# Altium footprint library Switch.PcbLib: 29 footprints (part 1 of 2)
Each footprint in its own frame and in the unit in brackets; x right, y up, seen from the top. Pads: shape width x height; smd on the part's side, far side on the other; paste and mask are expansions set on the pad; w line width, h text height; cw(c..) or ccw(c..) is an arc to the next point about the centre after c.
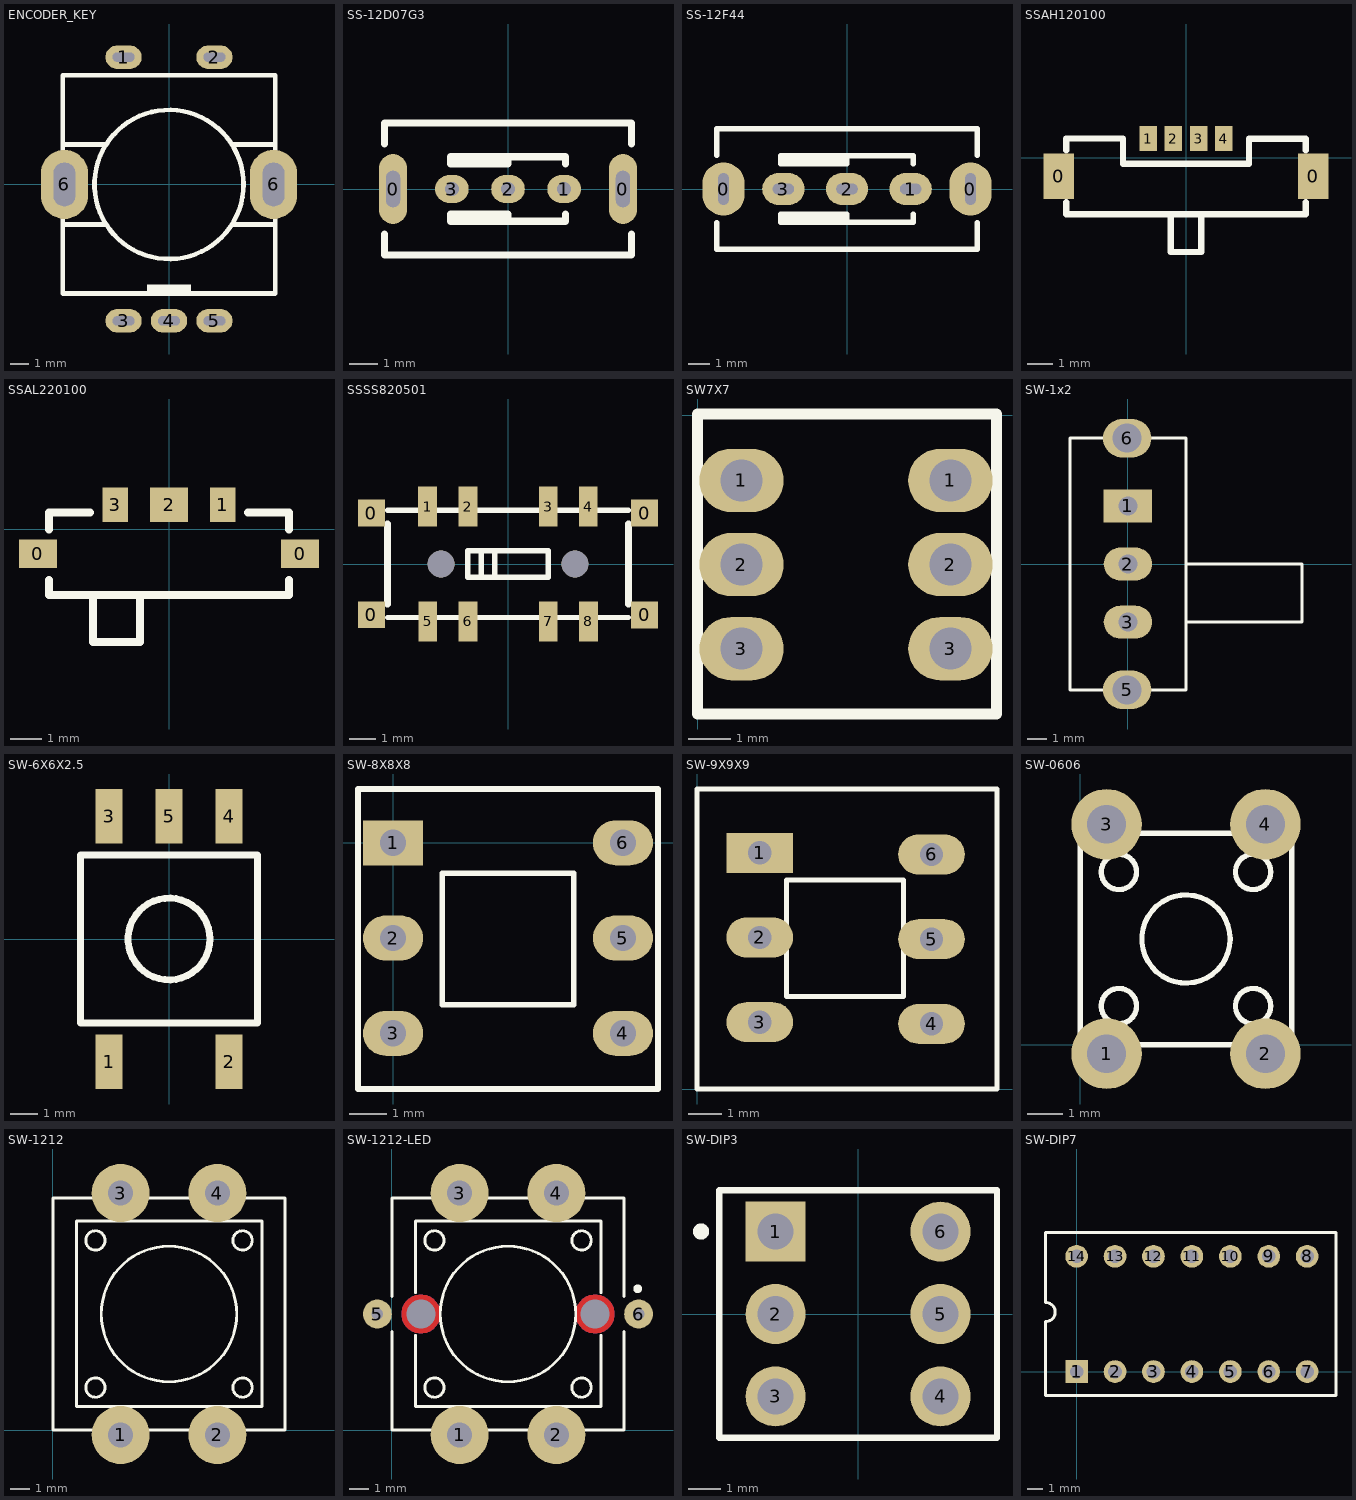
[diagram p0: the footprints below, top view; thin cyan lines are the x and y axes]

## ENCODER_KEY [mm]
pads (7):
  oval 2x1.3 hole 0.5 slot 1.2 at 0 deg: 1(-2.5,7) 2(2.5,7) 3(-2.5,-7.5) 4(0,-7.5) 5(2.5,-7.5)
  oval 2.6x3.8 hole 1.2 slot 2.4 at 90 deg: 6(-5.75,0) 6(5.75,0)
Top Overlay:
  circle w0.254: c0,0 r4.1
  rectangle: -1.2,-6 1.2,-5.5
  lines w0.254: -5.85,-2.2 -3.45,-2.2 ; -5.85,2.2 -3.45,2.2 ; 3.45,-2.2 5.85,-2.2 ; 3.45,2.2 5.85,2.2 ; -5.85,-6 5.85,-6 5.85,6 -5.85,6 -5.85,-6

## SS-12D07G3 [mm]
height 7.7
pads (5):
  oval 1x2.5 hole 0.5 slot 1.3 at 90 deg: 0(-4.1,0) 0(4.1,0)
  oval 1.2x1 hole 0.5: 1(2,0) 2(0,0) 3(-2,0)
Top Overlay:
  lines w0.254: -4.4,-1.6 -4.4,-2.35 4.4,-2.35 4.4,-1.6 ; -4.4,1.6 -4.4,2.35 4.4,2.35 4.4,1.6 ; 0,-1.15 0,-0.9 -2.05,-0.9 -2.05,-1.15 2.05,-1.15 2.05,-0.9 ; 0,1.15 0,0.9 -2.05,0.9 -2.05,1.15 2.05,1.15 2.05,0.9

## SS-12F44 [mm]
height 12
pads (5):
  oval 2x2.5 hole 0.5 slot 1.5 at 90 deg: 0(-5.825,0) 0(5.825,0)
  oval 2x1.5 hole 0.5 slot 1 at 0 deg: 1(3,0) 2(0,0) 3(-3,0)
Top Overlay:
  rectangle: -3.12,1.2 0,1.575
  rectangle: -3.12,-1.575 0,-1.2
  lines w0.254: -6.15,-1.6 -6.15,-2.85 6.15,-2.85 6.15,-1.6 ; -6.15,1.6 -6.15,2.85 6.15,2.85 6.15,1.6 ; 0,-1.575 0,-1.2 -3.12,-1.2 -3.12,-1.575 3.12,-1.575 3.12,-1.2 ; 0,1.575 0,1.2 -3.12,1.2 -3.12,1.575 3.12,1.575 3.12,1.2

## SSAH120100 [mm]
pads (6):
  rect 1.2x1.8 smd: 0(-5.05,-0.751) 0(5.05,-0.751)
  rect 0.7x1 smd: 1(-1.5,0.751) 2(-0.5,0.751) 3(0.5,0.751) 4(1.5,0.751)
Top Overlay:
  lines w0.254: -4.751,-1.782 -4.751,-2.246 4.749,-2.246 ; -4.751,0.28 -4.751,0.754 -2.5,0.754 ; -2.5,0.751 -2.5,-0.249 2.5,-0.249 2.5,0.751 ; -0.6,-2.249 -0.6,-3.749 0.6,-3.749 0.6,-2.249 ; 2.5,0.751 4.75,0.751 4.75,0.28 ; 4.75,-2.246 4.75,-1.782
3D body "SSAH120100.STEP": height 0.9, standoff 0, extent -5.26,-3.8 5.24,0.8

## SSAL220100 [mm]
pads (5):
  rect 1.2x0.9 smd: 0(-4.15,-0.775) 0(4.15,-0.775)
  rect 0.8x1.1 smd: 1(1.7,0.775) 3(-1.7,0.775)
  rect 1.2x1.1 smd: 2(0,0.775)
Top Overlay:
  lines w0.254: -3.8,-1.6 -3.8,-2.075 3.8,-2.075 3.8,-1.6 ; -3.8,0 -3.8,0.525 -2.5,0.525 ; 2.5,0.525 3.8,0.525 3.8,0 ; -2.413,-3.575 -2.413,-2.075 -0.913,-2.075 -0.913,-3.575 -2.413,-3.575
3D body "SSAL220100.STEP": height 1.18, standoff -0.02, extent -4.3,-3.4 4.3,1.2

## SSSS820501 [mm]
pads (14):
  rect 1x1 smd: 0(-5.1,-1.897) 0(-5.099,1.901) 0(5.1,-1.9) 0(5.1,1.899)
  rect 0.7x1.5 smd: 1(-3.002,2.146) 2(-1.497,2.146) 3(1.502,2.146) 4(2.996,2.146) 5(-2.999,-2.146) 6(-1.497,-2.146) 7(1.502,-2.146) 8(3.002,-2.146)
  round 1 hole 1 unplated: ""(-2.499,0) ""(2.499,0)
Top Overlay:
  lines w0.2: -4.5,-2 4.5,-2 ; -4.5,2 4.5,2 ; -1,-0.5 -1,0.5 ; -0.5,-0.5 -0.5,0 -0.5,0.5 ; -1.5,-0.5 -1.5,0.5 1.5,0.5 1.5,-0.5 -1.5,-0.5
  lines w0.254: -4.5,-1.5 -4.5,1.5 ; 4.5,-1.5 4.5,1.5
3D body "SSSS820501.STEP": height 2.9, standoff -0.5, extent -5.35,-2.949 5.35,2.951

## SW7X7 [mm]
pads (6):
  oval 2x1.5 hole 1: 1(1.041,-1.549) 1(5.994,-1.549) 2(1.041,-3.543) 2(5.994,-3.543) 3(1.041,-5.537) 3(5.994,-5.537)
Top Overlay:
  lines w0.254: 0,-7.087 7.087,-7.087 7.087,0.025 0,0.025 0,-7.087
3D body "button with fixation.step": height 13, standoff -4, extent -0.02,-7.087 6.98,-0.087

## SW-1x2 [mm]
pads (5):
  rect 2.5x1.7 hole 1: 1(0,3)
  oval 2.5x1.7 hole 1: 2(0,0) 3(0,-3)
  oval 2.5x2 hole 1.5: 5(-0.04,-6.5) 6(-0.04,6.5)
Top Overlay:
  lines w0.15: 3,-3 9,-3 9,0 3,0 ; -3,-6.5 3,-6.5 3,6.5 -3,6.5 -3,-6.5
3D body "User Library-SLIDE SWITCH SS12F23.STEP": height 5.25, standoff -3.85, extent -3.452,-6.5 9.447,6.5

## SW-6X6X2.5 [mm]
pads (5):
  rect 1x2 smd: 1(-2.2,-4.5) 2(2.2,-4.5) 3(-2.2,4.5) 4(2.2,4.5) 5(0,4.5)
Top Overlay:
  circle w0.254: c0,0 r1.5
  lines w0.254: -3.25,-3.073 3.25,-3.073 3.25,3.073 -3.25,3.073 -3.25,-3.073
3D body: height 2, standoff 1.9, extent -3.25,-3.25 3.25,3.25
3D body: height 2.5, standoff 2, extent -1.488,-1.497 1.5,1.497
3D body: height 1.9, standoff 0, extent -3.25,-3.25 3.25,3.25
3D body: height 0.2, standoff 0, extent 1.75,-4.75 2.65,-3.25
3D body: height 0.2, standoff 0, extent -2.65,-4.75 -1.75,-3.25
3D body: height 0.2, standoff 0, extent 1.75,3.25 2.65,4.75
3D body: height 0.2, standoff 0, extent -0.449,3.25 0.451,4.75
3D body: height 0.2, standoff 0, extent -2.65,3.25 -1.75,4.75

## SW-8X8X8 [mm]
pads (6):
  rect 1.6x1.2 hole 0.7: 1(0,0)
  oval 1.6x1.2 hole 0.7: 2(0,-2.54) 3(0,-5.08) 4(6.131,-5.08) 5(6.131,-2.54) 6(6.131,0)
Top Overlay:
  lines w0.15: -0.935,-6.565 7.065,-6.565 7.065,1.435 -0.935,1.435 -0.935,-6.565 ; 1.313,-4.318 1.313,-0.813 4.818,-0.813 4.818,-4.318 1.313,-4.318
3D body "User Library-PSM1-0-0.step": height 13.5, standoff -3.5, extent -0.935,-6.565 7.065,1.435

## SW-9X9X9 [mm]
pads (6):
  rect 2x1.2 hole 0.7: 1(1.88,7.087)
  oval 2x1.2 hole 0.7: 2(1.88,4.547) 3(1.88,2.007) 4(7.036,1.956) 5(7.036,4.496) 6(7.036,7.036)
Top Overlay:
  lines w0.15: 0,0 9,0 9,9 0,9 0,0 ; 2.692,2.769 6.198,2.769 6.198,6.274 2.692,6.274 2.692,2.769
3D body "User Library-TL 2201.step": height 14, standoff -3.5, extent 0.25,0.25 8.75,8.75

## SW-0606 [mm]
pads (4):
  round 2 hole 1.1: 1(0.75,-0.25) 2(5.25,-0.25) 3(0.75,6.25) 4(5.25,6.25)
Top Overlay:
  circle w0.15: c1.1,1.1 r0.5
  circle w0.15: c4.9,1.1 r0.5
  circle w0.15: c1.1,4.9 r0.5
  circle w0.15: c4.9,4.9 r0.5
  circle w0.15: c3,3 r1.25
  lines w0.15: 0,0 0,6 6,6 6,0 0,0
3D body "User Library-TS-1150-WP.STEP": height 5, standoff -3.5, extent -0.25,-1.134 6.25,7.134

## SW-1212 [mm]
pads (4):
  round 3 hole 1.3: 1(3.5,-0.25) 2(8.5,-0.25) 3(3.5,12.25) 4(8.5,12.25)
Top Overlay:
  circle w0.15: c9.8,9.8 r0.5
  circle w0.15: c2.2,9.8 r0.5
  circle w0.15: c9.8,2.2 r0.5
  circle w0.15: c6,6 r3.5
  circle w0.15: c2.2,2.2 r0.5
  lines w0.15: 0,0 0,12 12,12 12,0 0,0 ; 1.219,1.219 10.795,1.219 10.795,10.795 1.219,10.795 1.219,1.219
3D body "User Library-SWT9.step": height 9.5, standoff -3.5, extent 0,-0.936 12,12.937

## SW-1212-LED [mm]
pads (8):
  round 0 hole 1.5 unplated: 0(1.5,6) 0(10.5,6)
  round 3 hole 1.3: 1(3.5,-0.25) 2(8.5,-0.25) 3(3.5,12.25) 4(8.5,12.25)
  round 1.5 hole 0.6: 5(-0.75,6) 6(12.75,6)
Top Layer:
  pour cut-out: 1.5,7 1.598,7 1.792,6.962 1.974,6.886 2.137,6.777 2.277,6.637 2.386,6.474 2.462,6.292 2.5,6.098 2.5,6 2.5,5.902 2.462,5.708 2.386,5.526 2.277,5.363 2.137,5.223 1.974,5.114 1.792,5.038 1.598,5 1.5,5 1.402,5 1.208,5.038 1.026,5.114 0.863,5.223 0.723,5.363 0.614,5.526 0.538,5.708 0.5,5.902 0.5,6 0.5,6.098 0.538,6.292 0.614,6.474 0.723,6.637 0.863,6.777 1.026,6.886 1.208,6.962 1.402,7
  pour cut-out: 10.5,7 10.598,7 10.792,6.962 10.974,6.886 11.137,6.777 11.277,6.637 11.386,6.474 11.462,6.292 11.5,6.098 11.5,6 11.5,5.902 11.462,5.708 11.386,5.526 11.277,5.363 11.137,5.223 10.974,5.114 10.792,5.038 10.598,5 10.5,5 10.402,5 10.208,5.038 10.026,5.114 9.863,5.223 9.723,5.363 9.614,5.526 9.538,5.708 9.5,5.902 9.5,6 9.5,6.098 9.538,6.292 9.614,6.474 9.723,6.637 9.863,6.777 10.026,6.886 10.208,6.962 10.402,7
Bottom Layer:
  pour cut-out: 1.5,7 1.598,7 1.792,6.962 1.974,6.886 2.137,6.777 2.277,6.637 2.386,6.474 2.462,6.292 2.5,6.098 2.5,6 2.5,5.902 2.462,5.708 2.386,5.526 2.277,5.363 2.137,5.223 1.974,5.114 1.792,5.038 1.598,5 1.5,5 1.402,5 1.208,5.038 1.026,5.114 0.863,5.223 0.723,5.363 0.614,5.526 0.538,5.708 0.5,5.902 0.5,6 0.5,6.098 0.538,6.292 0.614,6.474 0.723,6.637 0.863,6.777 1.026,6.886 1.208,6.962 1.402,7
  pour cut-out: 10.5,7 10.598,7 10.792,6.962 10.974,6.886 11.137,6.777 11.277,6.637 11.386,6.474 11.462,6.292 11.5,6.098 11.5,6 11.5,5.902 11.462,5.708 11.386,5.526 11.277,5.363 11.137,5.223 10.974,5.114 10.792,5.038 10.598,5 10.5,5 10.402,5 10.208,5.038 10.026,5.114 9.863,5.223 9.723,5.363 9.614,5.526 9.538,5.708 9.5,5.902 9.5,6 9.5,6.098 9.538,6.292 9.614,6.474 9.723,6.637 9.863,6.777 10.026,6.886 10.208,6.962 10.402,7
Top Overlay:
  circle w0.15: c9.8,9.8 r0.5
  circle w0.15: c2.2,9.8 r0.5
  circle w0.15: c9.8,2.2 r0.5
  circle w0.15: c6,6 r3.5
  circle w0.15: c2.2,2.2 r0.5
  circle w0.254: c12.7,7.3 r0.1
  lines w0.15: 0,5.1 0,0 12,0 12,5.1 ; 0,6.9 0,12 12,12 12,6.9 ; 1.219,4.9 1.219,1.219 10.795,1.219 10.795,4.9 ; 1.219,7.1 1.219,10.795 10.795,10.795 10.795,7.1
3D body "User Library-SWT9.step": height 9.5, standoff -3.5, extent 0,-0.936 12,12.937

## SW-DIP3 [mm] "Switch; 6 Leads"
pads (6):
  rect 1.85x1.85 hole 1.1: 1(-2.54,2.54)
  round 1.85 hole 1.1: 2(-2.54,0) 3(-2.54,-2.54) 4(2.54,-2.54) 5(2.54,0) 6(2.54,2.54)
Top Overlay:
  circle w0.25: c-4.836,2.541 r0.125
  lines w0.2: -4.28,-3.81 -4.28,3.81 4.28,3.81 4.28,-3.81 -4.28,-3.81
3D body "SW3dPS-DIP-Schalter SMD 3polig RM2,54.STEP": height 3.55, standoff -0.65, extent -3.81,-3.683 3.81,3.937

## SW-DIP7 [mm] "DIP; 16 Leads; Row Spacing 7.62 mm; Pitch 2.54 mm"
pads (14):
  rect 1.5x1.5 hole 0.9: 1(0,0)
  round 1.5 hole 0.9: 2(2.54,0) 3(5.08,0) 4(7.62,0) 5(10.16,0) 6(12.7,0) 7(15.24,0) 8(15.24,7.62) 9(12.7,7.62) 10(10.16,7.62) 11(7.62,7.62) 12(5.08,7.62) 13(2.54,7.62) 14(0,7.62)
Top Overlay:
  lines w0.2: -2.05,4.57 cw(c-2.05,3.935) -2.05,3.3 -2.05,-1.59 17.145,-1.59 17.145,9.2 -2.05,9.2 -2.05,4.6
3D body "DIPSWITCH7.STEP": height 6.9, standoff -3.2, extent -2.05,-1.245 17.09,8.915